# EAGLE library part LMC7660IM_NOPB (library LMC7660IM_NOPB)
1.5-V to 10-V switched capacitor voltage converter Source: Datasheet <http://www.ti.com/lit/ds/symlink/lmc7660.pdf>
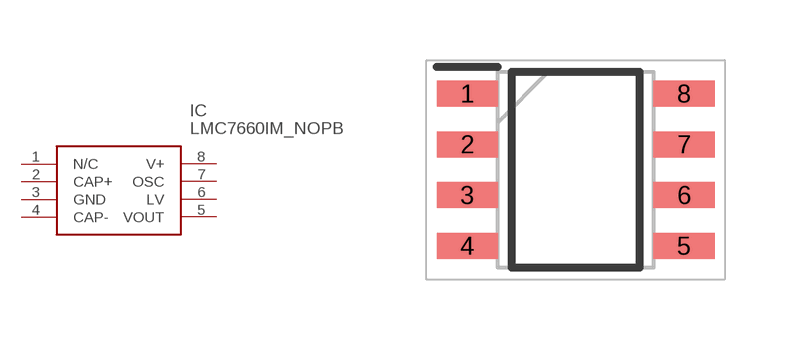
[diagram p0: symbol with the pads of SOIC127P600X175-8N; footprint SOIC127P600X175-8N]

Designator prefix IC

## LMC7660IM_NOPB (Description: 1.5-V to 10-V switched capacitor voltage converter; Height: 1.75mm; Manufacturer_Name: Texas Instruments; Manufacturer_Part_Number: LMC7660IM/NOPB; Mouser_Part_Number: 926-LMC7660IM/NOPB; Mouser_Price-Stock: https://www.mouser.co.uk/ProductDetail/Texas-Instruments/LMC7660IM-NOPB?qs=7lkVKPoqpbZi64kwFiQ%2F%252Bg%3D%3D)  [SOIC127P600X175-8N]
1  N/C  nc
2  CAP+
3  GND
4  CAP-
5  VOUT
6  LV
7  OSC
8  V+

## Footprint SOIC127P600X175-8N (pad centres in mm)
D0008A_
smd 1.528 x 0.65: 1 -2.711,1.905; 2 -2.711,0.635; 3 -2.711,-0.635; 4 -2.711,-1.905; 5 2.711,-1.905; 6 2.711,-0.635; 7 2.711,0.635; 8 2.711,1.905